# Altium schematic symbol library MedBoxSchLib.SchLib: 4 symbols
Pins are listed as number, name and electrical type; pins without a type are passive.

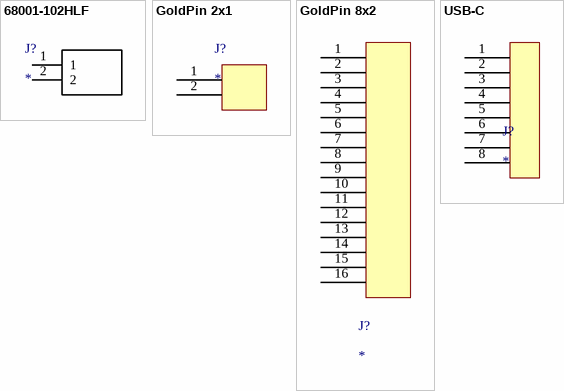
[diagram p0: symbols 68001-102HLF to USB-C]

## 68001-102HLF
designator J?
Connector; Manufacturer_Name: Amphenol; Manufacturer_Part_Number: 68001-102HLF; Description: Headers & Wire Housings 2P SIP HEADER .1"sp; Datasheet Link: https://cdn.amphenol-cs.com/media/wysiwyg/files/drawing/68000.pdf; Height: 8.58mm; Mouser Part Number: 649-68001-102HLF; Mouser Price/Stock: https://www.mouser.co.uk/ProductDetail/Amphenol-FCI/68001-102HLF?qs=U4OZ2mbKj8feu9tJlaXIaQ%3D%3D
footprint HDRV2W67P0X254_1X2_508X241X858P
pins: 1, 2

## GoldPin 2x1
designator J?
pins: 1, 2

## GoldPin 8x2
designator J?
pins: 1, 2 27, 3, 4, 5, 6, 7, 8, 9, 10, 11, 12, 13, 14, 15, 16

## USB-C
designator J?
pins: 1 45, 2, 3 47, 4, 5, 6, 7 51, 8 52